# Altium schematic symbol library OS102011MS2QN1.SchLib: 1 symbol
Pins are listed as number, name and electrical type; pins without a type are passive.

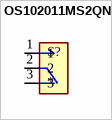
[diagram p0: symbol OS102011MS2QN1]

## OS102011MS2QN1
designator S?
Switch Slide ON ON SPDT Top Slide 0.1A 12VDC 10000Cycles PC Pins Thru-Hole Bulk; MF: {'manufacturer': u'C&K'}; MP: OS102011MS2QN1; Package: None; Price: None; Value: *; Availability: Unavailable
footprint SW_OS102011MS2QN1
pins: 1, 2, 3